# Altium schematic symbol library FDD8424H_F085A 05_10_18.SchLib: 1 symbol
Pins are listed as number, name and electrical type; pins without a type are passive.

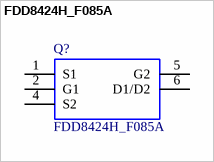
[diagram p0: symbol FDD8424H_F085A]

## FDD8424H_F085A
designator Q?
MOSFET Dual N&PCH PwrTrench +/- 40V,20A; Manufacturer_Name: Fairchild Semiconductor; Manufacturer_Part_Number: FDD8424H_F085A; RS Part Number: 8648102P; RS Price/Stock: http://uk.rs-online.com/web/p/products/8648102P; Datasheet Link: http://www.mouser.com/ds/2/308/FDD8424H_F085A-1122839.pdf
footprint DUAL_DPAK_4L1
pins: 1 S1, 2 G1, 4 S2, 5 G2, 6 D1/D2